# Altium schematic symbol library Transistors.SchLib: 13 symbols
Pins are listed as number, name and electrical type; pins without a type are passive.

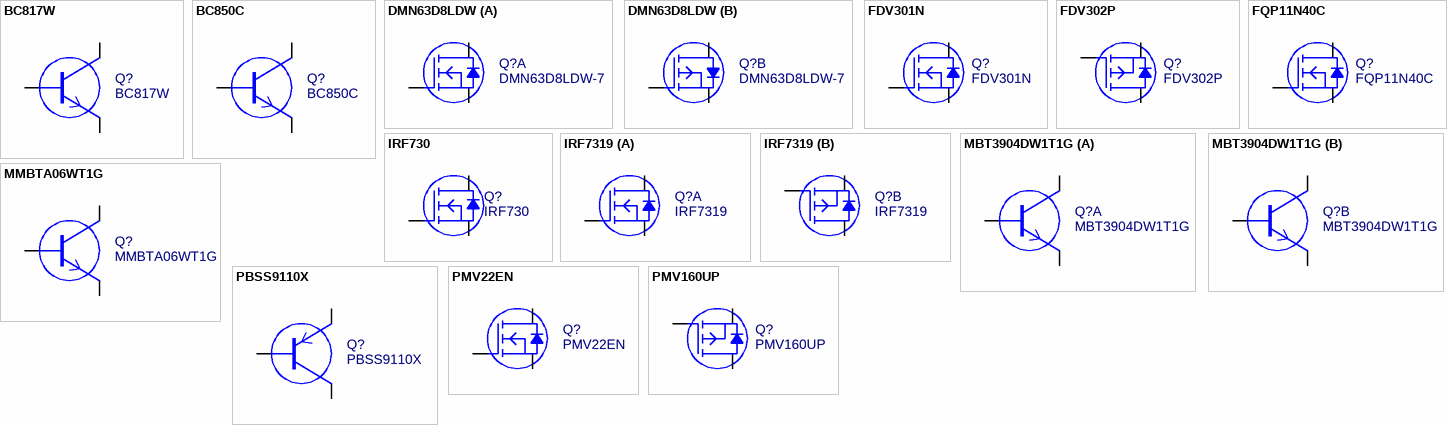
[diagram p0: symbols BC817W to PMV160UP]

## BC817W
designator Q?
BJT NPN Ic=500mA Pd=200mW; Manufacturer 1: NXP; Hfe: 100; Ic: 0.5A; Ptot: 0.2W; Vceo: 45V; Supplier 1: Mouser; Supplier Part Number 1: 771-BC817W115; Manufacturer Part Number 1: BC817W; ComponentLink1Description: Datasheet; ComponentLink1URL: http://www.nxp.com/documents/data_sheet/BC817_BC817W_BC337.pdf; Package: SOT-323; Created: 2014-02-07; Last Updated: 2014-03-13
footprint SOT323 (Small Outline Transistor)
pins: 1 B, 2 E, 3 C

## BC850C
designator Q?
BJT NPN Ic=100mA Ptot=250mW; Manufacturer 1: NXP; Hfe: 420; Ic: 0.1A; Ptot: 0.25W; Vceo: 45V; ComponentLink1URL: http://www.nxp.com/documents/data_sheet/BC849_BC850.pdf; ComponentLink1Description: Datasheet; Supplier 1: Mouser; Supplier Part Number 1: 771-BC850C235; Manufacturer Part Number 1: BC850C; Package: SOT-23; Created: 2014-02-07; Last Updated: 2014-02-07
footprint SOT23 (SOT23, 3-Leads, Body 2.9x1.3mm, Pitch 0.95mm, Lead Span 2.3mm - Reverse Pinning, IPC Low Density)
pins: 1 B, 2 E, 3 C

## DMN63D8LDW
designator Q?, comment DMN63D8LDW-7
DUAL N-CHANNEL ENHANCEMENT MODE MOSFET; Manufacturer 1: Diodes Inc.; Vds: 20V; Supplier 1: Mouser; Supplier Part Number 1: 621-DMN63D8LDW-7; Manufacturer Part Number 1: DMN63D8LDW-7; ComponentLink1Description: Datasheet; Package: SOT-363; Vgs: 20V; Created: 2014-05-17; Last Updated: 2014-05-17
footprint SOT363 (SOT23, 6-Leads, Body 2,2x2,2mm (max), Pitch 0,65mm, IPC Medium Density)
part A pins: 3 D1 "Drain", 4 S1 "Source", 5 G1 "Gate"
part B pins: 1 S2 "Source", 2 G2 "Gate", 6 D2 "Drain"

## FDV301N
designator Q?
Digital FET n-channel; Manufacturer 1: Fairchild; gfs: 0.2S; Id: 0.2A; Ptot: 0.350W; Rds: 4R; Vds: 25V; Vgs: 8V; Supplier 1: Mouser; Supplier Part Number 1: 512-FDV301N; Manufacturer Part Number 1: FDV301N; ComponentLink1Description: Datasheet; Package: SOT-23; Created: 2014-05-17; Last Updated: 2014-05-17
footprint SOT23 (SOT23, 3-Leads, Body 2.9x1.3mm, Pitch 0.95mm, Lead Span 2.3mm - Reverse Pinning, IPC Low Density)
pins: 1 G "Gate", 2 S "Source", 3 D "Drain"

## FDV302P
designator Q?
Digital FET p-channel; Manufacturer 1: Fairchild; gfs: 0.135S; Id: 0.12A; Ptot: 0.350W; Rds: 10R; Vds: 25V; Vgs: 8V; Supplier 1: Mouser; Supplier Part Number 1: 512-FDV302P; Manufacturer Part Number 1: FDV302P; ComponentLink1Description: Datasheet; Package: SOT-23; Created: 2014-05-17; Last Updated: 2014-05-17
footprint SOT23 (SOT23, 3-Leads, Body 2.9x1.3mm, Pitch 0.95mm, Lead Span 2.3mm - Reverse Pinning, IPC Low Density)
pins: 1 G "Gate", 2 S "Source", 3 D "Drain"

## FQP11N40C
designator Q?
N-Channel MOSFET 400 V, 10.5 A, 530 mΩ; Manufacturer 1: Fairchild; Id: 10.5A; Ptot: 135W; Rds: 0.43R; Vds: 400V; Vgs: 30V; Supplier 1: Mouser; Supplier Part Number 1: 512-FQP11N40C; Manufacturer Part Number 1: FQP11N40C; ComponentLink1Description: Datasheet; Package: TO-220; Created: 2014-08-23; Last Updated: 2014-08-23
footprint TO-220-VERTICAL
pins: 1 G "Gate", 2 S "Source", 3 D "Drain"

## IRF730
designator Q?
MOSFET 400V 1ohm@10V 5.5A N/Ch; Manufacturer 1: Vishay; Manufacturer Part Number 1: IRF730BPBF; Supplier 1: Mouser; Supplier Part Number 1: 78-IRF730BPBF; ComponentLink1Description: Datasheet; Created: 2014-08-28; Last Updated: 2014-08-28
footprint TO-220-VERTICAL
pins: 1 G1 "Gate", 2 D1, 3 S1 "Source"

## IRF7319
designator Q?
Dual power PMOS/NMOS; Manufacturer 1: IRF; gfs: 14S/7.7S; Id: 6.5A/-4.9A; Ptot: 2W; Vds: 30V/-30V; Vgs: 1V/-1V; Supplier 1: Mouser; Supplier Part Number 1: 942-IRF7319TRPBF; Manufacturer Part Number 1: IRF7319; ComponentLink1Description: Datasheet; ComponentLink1URL: http://www.irf.com/product-info/datasheets/data/irf7319.pdf; Package: SOIC-8; Created: 2014-02-07; Last Updated: 2014-08-28
footprint SOIC8 (SOIC, 8-Leads, Body 5.3x5.4mm (max), Pitch 1.27mm, IPC Medium Density)
part A pins: 1 S1 "Source", 2 G1 "Gate", 7 D1, 8 D1 "Drain"
part B pins: 3 S2 "Source", 4 G2 "Gate", 5 D2, 6 D2 "Drain"

## MBT3904DW1T1G
designator Q?
Dual General Purpose  Transistors; Manufacturer 1: ON; Hfe: 40; Ic: 0.2A; Ptot: 0.625W; ComponentLink1Description: Datasheet; Created: 2014-04-23; Last Updated: 2014-04-23; Manufacturer Part Number 1: MBT3904DW1T1G; Package: SOT-363; Supplier 1: Mouser; Supplier Part Number 1: 863-MBT3904DW1T1G
footprint SOT363 (SOT23, 6-Leads, Body 2,2x2,2mm (max), Pitch 0,65mm, IPC Medium Density)
part A pins: 1 B, 2 E, 3 C
part B pins: 1 B, 2 E, 3 C

## MMBTA06WT1G
designator Q?
BJT NPN Ic=500mA Pd=150mW; Manufacturer 1: ON; Hfe: 100; Ic: 0.5A; Ptot: 0.15W; Vceo: 80V; Supplier 1: Mouser; Supplier Part Number 1: 863-MMBTA06WT1G; Manufacturer Part Number 1: MMBTA06W; ComponentLink1Description: Datasheet; ComponentLink1URL: http://www.onsemi.com/pub_link/Collateral/MMBTA06WT1-D.PDF; Package: SOT-323; Created: 2014-02-07; Last Updated: 2014-04-23
footprint SOT-323 (Small Outline Transistor)
pins: 1 B, 2 E, 3 C

## PBSS9110X
designator Q?
BJT PNP Ic=1A Pd=550mW; Manufacturer 1: NXP; Manufacturer Part Number 1: PBSS9110X,135; Hfe: 150; Ic: 1A; Ptot: 0.55W; Vceo: 100V; Supplier 1: Mouser; Supplier Part Number 1: 771-PBSS9110X135; ComponentLink1Description: Datasheet; Package: TO-243; Created: 2015-06-14; Last Updated: 2015-06-14
footprint SOT95P237X112-3N
pins: 1 E, 2 C, 3 B

## PMV22EN
designator Q?
30 V, 5.2 A N-channel Trench MOSFET; Manufacturer 1: NXP; gfs: 3.7S; Id: 5.2A; Ptot: 0.510W; Rds: 0.022R; Vds: 20V; Supplier 1: Mouser; Supplier Part Number 1: 771-PMV22EN215; Manufacturer Part Number 1: PMV22EN; ComponentLink1Description: Datasheet; ComponentLink1URL: http://www.nxp.com/documents/data_sheet/PMV22EN.pdf; Package: SOT-23; Vgs: 20V; Created: 2014-02-07; Last Updated: 2014-05-17
footprint SOT23 (SOT23, 3-Leads, Body 2.9x1.3mm, Pitch 0.95mm, Lead Span 2.3mm - Reverse Pinning, IPC Low Density)
pins: 1 G "Gate", 2 S "Source", 3 D "Drain"

## PMV160UP
designator Q?
MOSFET P-chan Ids=1.2A; Manufacturer 1: NXP; gfs: 3.7S; Id: -1.2A; Ptot: 0.335W; Rds: 0.21R; Vds: -20V; Vgs: 8V; Supplier 1: Mouser; Supplier Part Number 1: 771-PMV160UP215; Manufacturer Part Number 1: PMV160UP; ComponentLink1Description: Datasheet; ComponentLink1URL: http://www.nxp.com/documents/data_sheet/PMV160UP.pdf; Package: SOT-23; Created: 2014-02-07; Last Updated: 2015-01-04
footprint SOT23 (SOT23, 3-Leads, Body 2.9x1.3mm, Pitch 0.95mm, Lead Span 2.3mm - Reverse Pinning, IPC Low Density)
pins: 1 G "Gate", 2 S "Source", 3 D "Drain"